# Altium schematic symbol library XP04115.Schlib: 1 symbol
Pins are listed as number, name and electrical type; pins without a type are passive.

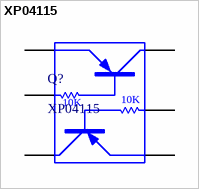
[diagram p0: symbol XP04115]

## XP04115
designator Q?
pins: 1 EQ1, 2 BQ1, 3 CQ2, 4 EQ2, 5 BQ2, 6 CQ1
text: 10K